# Altium schematic symbol library 7Seg_ACSA02_1.Schlib: 1 symbol
Pins are listed as number, name and electrical type; pins without a type are passive.

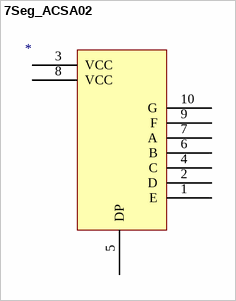
[diagram p0: symbol 7Seg_ACSA02]

## 7Seg_ACSA02
designator *  (value not drawn)
footprint 7Seg-ACSA02
pins: 1 E, 2 D, 3 VCC, 4 C, 5 DP, 6 B, 7 A, 8 VCC, 9 F, 10 G